# EAGLE library part OSTTE080104 (library TJ)
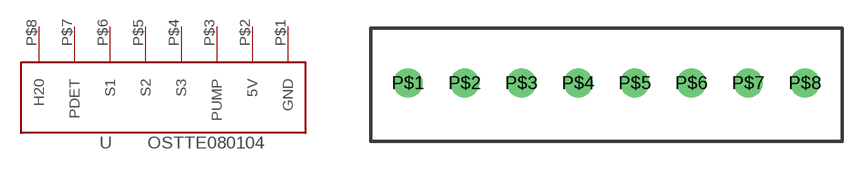
[diagram p1: symbol with the pads of OSTTE080104; footprint OSTTE080104]

Designator prefix -

## OSTTE080104  [OSTTE080104]
P$1  GND  pwr
P$2  5V  pwr
P$3  PUMP  out
P$4  S3  out
P$5  S2  out
P$6  S1  out
P$7  PDET  in
P$8  H20  in

## Footprint OSTTE080104 (pad centres in mm)
drill 1.2: P$1 0,0; P$2 3.5,0; P$3 7,0; P$4 10.5,0; P$5 14,0; P$6 17.5,0; P$7 21,0; P$8 24.5,0